# Altium footprint library HC-52SMD.PcbLib: 1 footprints
Each footprint in its own frame and in the unit in brackets; x right, y up, seen from the top. Pads: shape width x height; smd on the part's side, far side on the other; paste and mask are expansions set on the pad; w line width, h text height; cw(c..) or ccw(c..) is an arc to the next point about the centre after c.
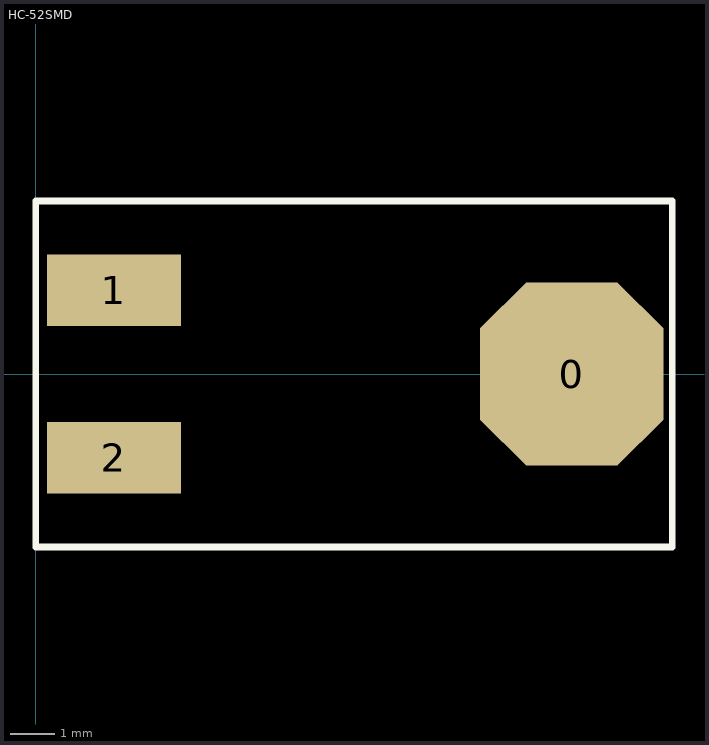
[diagram p0: the footprint, top view; thin cyan lines are the x and y axes]

## HC-52SMD [mil] "HC-52-SMD"
pads (3):
  oct 164x164 smd: 0(480,0)
  rect 120x64 smd: 1(70,75) 2(70,-75)
Top Overlay:
  lines w6: 0,-155 570,-155 570,155 0,155 0,-155
3D body: height 120, standoff 35, extent 140,-155 385,155